# Altium footprint library SR PCB Library V01.PcbLib: 402 footprints (part 23 of 26)
Each footprint in its own frame and in the unit in brackets; x right, y up, seen from the top. Pads: shape width x height; smd on the part's side, far side on the other; paste and mask are expansions set on the pad; w line width, h text height; cw(c..) or ccw(c..) is an arc to the next point about the centre after c.
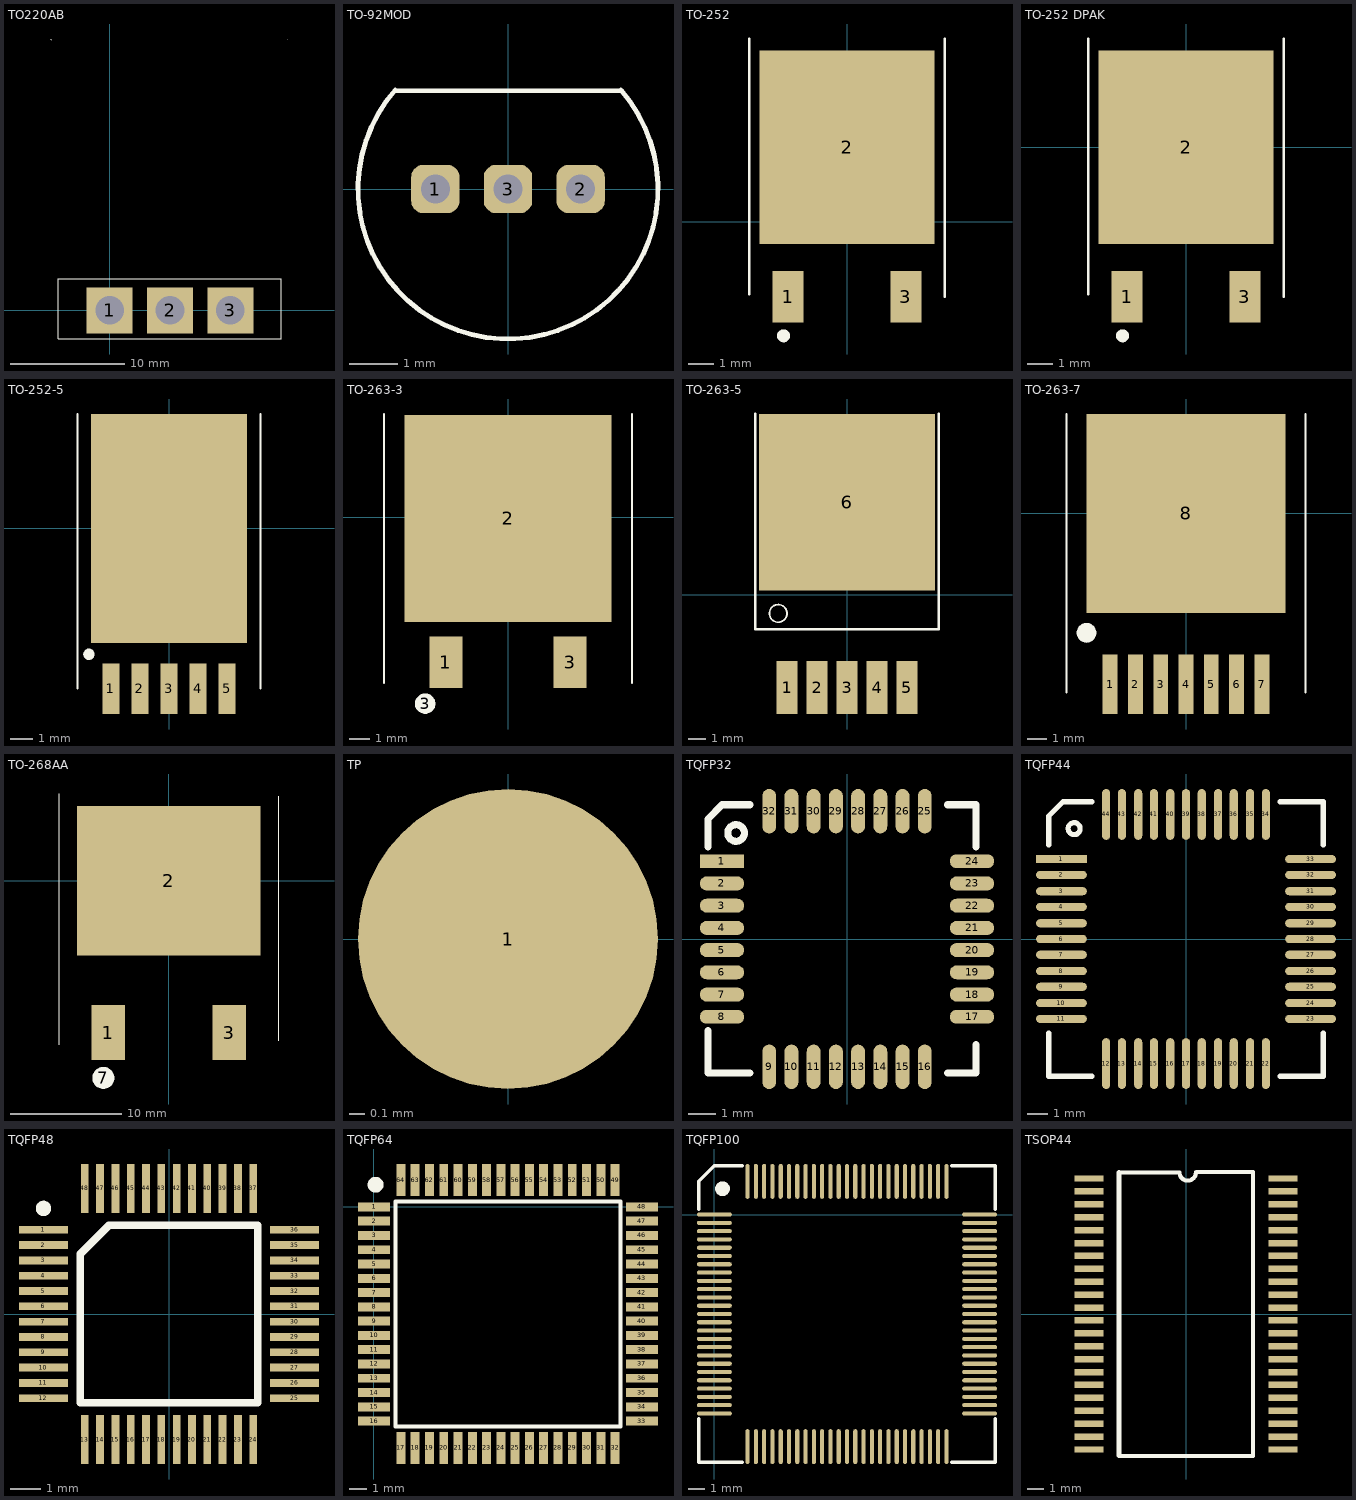
[diagram p22: the footprints below, top view; thin cyan lines are the x and y axes]

## TO220AB [mm]
pads (3):
  rect 4x4 hole 2.5: 1(0,0) 2(5.28,0) 3(10.56,0)
Top Overlay:
  lines w0.1: -5.125,23.72 -5.065,23.66 ; -4.5,2.774 -4.5,-2.5 15,-2.5 15,2.778 -4.446,2.778 ; 15.505,23.66 15.505,23.66

## TO-92MOD [mm]
height 4.55
pads (3):
  rrect50% 1x1 hole 0.6: 1(-1.5,0) 2(1.5,0) 3(0,0)
Top Overlay:
  lines w0.1: -2.331,2.044 ccw(c0,0) 2.332,2.043 ; -2.315,2.03 0,2.03 2.317,2.03

## TO-252 [mm]
height 0.68
pads (3):
  rect 1.2x2 smd: 1(-2.286,-2.9) 3(2.286,-2.9)
  rect 6.8x7.5 smd: 2(0,2.9)
Top Overlay:
  circle w0.254: c-2.462,-4.415 r0.125
  lines w0.1: -3.8,-2.8 -3.8,7.1 ; 3.8,-2.9 3.8,7.1

## TO-252 DPAK [mm]
pads (3):
  rect 1.2x2 smd: 1(-2.286,-5.8) 3(2.286,-5.8)
  rect 6.8x7.5 smd: 2(0,0)
Top Overlay:
  circle w0.254: c-2.462,-7.315 r0.125
  lines w0.1: -3.8,-5.7 -3.8,4.2 ; 3.8,-5.8 3.8,4.2

## TO-252-5 [mm]
pads (7):
  rect 0.75x2.2 smd: 1(-2.54,-7.01) 2(-1.27,-7.01) 3(0,-7.01) 4(1.27,-7.01) 5(2.54,-7.01)
  round 0.5 on Top Overlay: ""(-3.5,-5.5)
  rect 6.8x10 smd: ""(0,0)
Top Overlay:
  lines w0.1: -4,-7 -4,5 ; 4,-7 4,5

## TO-263-3 [mm]
pads (4):
  rect 1.6x2.5 smd: 1(-3,-7) 3(3,-7)
  rect 10x10 smd: 2(0,-0.05)
  round 1 on Top Overlay: 3(-4,-9)
Top Overlay:
  lines w0.1: -6,-8 -6,5 ; 6,-8 6,5

## TO-263-5 [mm]
height 1.75
pads (6):
  rect 1.2x3 smd: 1(-3.4,-5.25) 2(-1.7,-5.25) 3(0,-5.25) 4(1.7,-5.25) 5(3.4,-5.25)
  rect 10x10 smd: 6(0,5.25)
Top Overlay:
  circle w0.1: c-3.9,-1.05 r0.5
  lines w0.15: -5.2,10.25 -5.2,-1.95 5.2,-1.95 5.2,10.25

## TO-263-7 [mm]
pads (9):
  rect 0.75x3 smd: 1(-3.81,-8.58) 2(-2.54,-8.58) 3(-1.27,-8.58) 4(0,-8.58) 5(1.27,-8.58) 6(2.54,-8.58) 7(3.81,-8.58)
  rect 10x10 smd: 8(0,0)
  round 1 on Top Overlay: ""(-5,-6)
Top Overlay:
  lines w0.1: -6,-9 -6,5 ; 6,-9 6,5

## TO-268AA [mm]
pads (4):
  rect 3x5 smd paste+0: 1(-5.46,-13.7)
  rect 16.6x13.5 smd: 2(0,0)
  rect 3x5 smd: 3(5.46,-13.7)
  round 2 on Top Overlay mask+0.102: 7(-5.9,-17.8)
Top Overlay:
  lines w0.1: -9.9,-14.8 -9.9,7.85 ; 9.95,-14.45 9.95,7.65

## TP [mm]
height 0.5
pads (1):
  round 2 smd: 1(0,0)

## TQFP32 [mm]
pads (32):
  rect 1.6x0.5 smd: 1(-4.5,2.8)
  oval 1.6x0.5 smd: 2(-4.5,2) 3(-4.5,1.2) 4(-4.5,0.4) 5(-4.5,-0.4) 6(-4.5,-1.2) 7(-4.5,-2) 8(-4.5,-2.8) 17(4.5,-2.8) 18(4.5,-2) 19(4.5,-1.2) 20(4.5,-0.4) 21(4.5,0.4) 22(4.5,1.2) 23(4.5,2) 24(4.5,2.8)
  oval 0.5x1.6 smd: 9(-2.8,-4.6) 10(-2,-4.6) 11(-1.2,-4.6) 12(-0.4,-4.6) 13(0.4,-4.6) 14(1.2,-4.6) 15(2,-4.6) 16(2.8,-4.6) 25(2.8,4.6) 26(2,4.6) 27(1.2,4.6) 28(0.4,4.6) 29(-0.4,4.6) 30(-1.2,4.6) 31(-2,4.6) 32(-2.8,4.6)
Top Overlay:
  circle w0.254: c-3.992,3.816 r0.3
  lines w0.254: -5.008,-4.312 -5.008,-3.296 ; -5.008,-3.804 -5.008,-4.82 -3.484,-4.82 ; -5.008,3.308 -5.008,4.324 -4.5,4.832 -3.992,4.832 -3.484,4.832 ; 3.628,-4.82 4.644,-4.82 4.644,-3.804 ; 3.628,4.832 4.644,4.832 4.644,3.308

## TQFP44 [mil]
pads (44):
  rect 100x16 smd: 1(-245,157)
  oval 100x16 smd: 2(-245,126) 3(-245,94) 4(-245,63) 5(-245,31) 6(-245,0) 7(-245,-31) 8(-245,-63) 9(-245,-94) 10(-245,-126) 11(-245,-157) 23(245,-157) 24(245,-126) 25(245,-94) 26(245,-63) 27(245,-31) 28(245,0) 29(245,31) 30(245,63) 31(245,94) 32(245,126) 33(245,157)
  oval 16x100 smd: 12(-157,-245) 13(-126,-245) 14(-94,-245) 15(-63,-245) 16(-31,-245) 17(0,-245) 18(31,-245) 19(63,-245) 20(94,-245) 21(126,-245) 22(157,-245) 34(157,245) 35(126,245) 36(94,245) 37(63,245) 38(31,245) 39(0,245) 40(-31,245) 41(-63,245) 42(-94,245) 43(-126,245) 44(-157,245)
Top Overlay:
  circle w10: c-220,217 r11.81
  lines w10: -270,-185 -270,-270 -185,-270 ; -270,185 -270,242 -242,270 -185,270 ; 185,-270 270,-270 270,-185 ; 185,270 270,270 270,185

## TQFP48 [mm]
pads (48):
  rect 1.6x0.254 smd: 1(-4.1,2.75) 2(-4.1,2.25) 3(-4.1,1.75) 4(-4.1,1.25) 5(-4.1,0.75) 6(-4.1,0.25) 7(-4.1,-0.25) 8(-4.1,-0.75) 9(-4.1,-1.25) 10(-4.1,-1.75) 11(-4.1,-2.25) 12(-4.1,-2.75) 25(4.1,-2.75) 26(4.1,-2.25) 27(4.1,-1.75) 28(4.1,-1.25) 29(4.1,-0.75) 30(4.1,-0.25) 31(4.1,0.25) 32(4.1,0.75) 33(4.1,1.25) 34(4.1,1.75) 35(4.1,2.25) 36(4.1,2.75)
  rect 0.254x1.6 smd: 13(-2.75,-4.1) 14(-2.25,-4.1) 15(-1.75,-4.1) 16(-1.25,-4.1) 17(-0.75,-4.1) 18(-0.25,-4.1) 19(0.25,-4.1) 20(0.75,-4.1) 21(1.25,-4.1) 22(1.75,-4.1) 23(2.25,-4.1) 24(2.75,-4.1) 37(2.75,4.1) 38(2.25,4.1) 39(1.75,4.1) 40(1.25,4.1) 41(0.75,4.1) 42(0.25,4.1) 43(-0.25,4.1) 44(-0.75,4.1) 45(-1.25,4.1) 46(-1.75,4.1) 47(-2.25,4.1) 48(-2.75,4.1)
Top Overlay:
  circle w0.25: c-4.1,3.45 r0.125
  lines w0.2: -2.9,-2.9 2.9,-2.9 2.9,2.9
  lines w0.254: -2.9,1.958 -1.958,2.9 ; -2.9,1.958 -2.9,-2.9 2.9,-2.9 2.9,2.9 -1.274,2.9 -1.958,2.9 ; -2.9,1.958 -1.958,2.9

## TQFP64 [mm]
height 9.6
pads (64):
  rect 1.8x0.5 smd: 1(0.018,0.006) 2(0.018,-0.794) 3(0.018,-1.594) 4(0.018,-2.394) 5(0.018,-3.194) 6(0.018,-3.994) 7(0.018,-4.794) 8(0.018,-5.594) 9(0.018,-6.394) 10(0.018,-7.194) 11(0.018,-7.994) 12(0.018,-8.794) 13(0.018,-9.594) 14(0.018,-10.394) 15(0.018,-11.194) 16(0.018,-11.994) 33(15.018,-11.994) 34(15.018,-11.194) 35(15.018,-10.394) 36(15.018,-9.594) 37(15.018,-8.794) 38(15.018,-7.994) 39(15.018,-7.194) 40(15.018,-6.394) 41(15.018,-5.594) 42(15.018,-4.794) 43(15.018,-3.994) 44(15.018,-3.194) 45(15.018,-2.394) 46(15.018,-1.594) 47(15.018,-0.794) 48(15.018,0.006)
  rect 0.5x1.8 smd: 17(1.518,-13.494) 18(2.318,-13.494) 19(3.118,-13.494) 20(3.918,-13.494) 21(4.718,-13.494) 22(5.518,-13.494) 23(6.318,-13.494) 24(7.118,-13.494) 25(7.918,-13.494) 26(8.718,-13.494) 27(9.518,-13.494) 28(10.318,-13.494) 29(11.118,-13.494) 30(11.918,-13.494) 31(12.718,-13.494) 32(13.518,-13.494) 49(13.518,1.506) 50(12.718,1.506) 51(11.918,1.506) 52(11.118,1.506) 53(10.318,1.506) 54(9.518,1.506) 55(8.718,1.506) 56(7.918,1.506) 57(7.118,1.506) 58(6.318,1.506) 59(5.518,1.506) 60(4.718,1.506) 61(3.918,1.506) 62(3.118,1.506) 63(2.318,1.506) 64(1.518,1.506)
Top Overlay:
  circle w0.432: c0.104,1.245 r0.229
  lines w0.2: 1.218,-12.294 13.818,-12.294 13.818,0.306 1.218,0.306 1.218,-12.294

## TQFP100 [mm]
pads (100):
  oval 2.1x0.25 smd: 1(0,0) 2(0,-0.5) 3(0,-1) 4(0,-1.5) 5(0,-2) 6(0,-2.5) 7(0,-3) 8(0,-3.5) 9(0,-4) 10(0,-4.5) 11(0,-5) 12(0,-5.5) 13(0,-6) 14(0,-6.5) 15(0,-7) 16(0,-7.5) 17(0,-8) 18(0,-8.5) 19(0,-9) 20(0,-9.5) 21(0,-10) 22(0,-10.5) 23(0,-11) 24(0,-11.5) 25(0,-12) 51(16,-12) 52(16,-11.5) 53(16,-11) 54(16,-10.5) 55(16,-10) 56(16,-9.5) 57(16,-9) 58(16,-8.5) 59(16,-8) 60(16,-7.5) 61(16,-7) 62(16,-6.5) 63(16,-6) 64(16,-5.5) 65(16,-5) 66(16,-4.5) 67(16,-4) 68(16,-3.5) 69(16,-3) 70(16,-2.5) 71(16,-2) 72(16,-1.5) 73(16,-1) 74(16,-0.5) 75(16,0)
  oval 0.25x2.1 smd: 26(2,-14) 27(2.5,-14) 28(3,-14) 29(3.5,-14) 30(4,-14) 31(4.5,-14) 32(5,-14) 33(5.5,-14) 34(6,-14) 35(6.5,-14) 36(7,-14) 37(7.5,-14) 38(8,-14) 39(8.5,-14) 40(9,-14) 41(9.5,-14) 42(10,-14) 43(10.5,-14) 44(11,-14) 45(11.5,-14) 46(12,-14) 47(12.5,-14) 48(13,-14) 49(13.5,-14) 50(14,-14) 76(14,2) 77(13.5,2) 78(13,2) 79(12.5,2) 80(12,2) 81(11.5,2) 82(11,2) 83(10.5,2) 84(10,2) 85(9.5,2) 86(9,2) 87(8.5,2) 88(8,2) 89(7.5,2) 90(7,2) 91(6.5,2) 92(6,2) 93(5.5,2) 94(5,2) 95(4.5,2) 96(4,2) 97(3.5,2) 98(3,2) 99(2.5,2) 100(2,2)
Top Overlay:
  circle w0.7: c0.49,1.56 r0.09
  lines w0.2: -0.95,-12.3 -0.95,-14.95 1.7,-14.95 ; -0.95,0.3 -0.95,2 0,2.95 1.7,2.95 ; 14.3,-14.95 16.95,-14.95 16.95,-12.3 ; 14.3,2.95 16.95,2.95 16.95,0.3

## TSOP44 [mm]
pads (44):
  rect 1.8x0.4 smd: 1(-6,8.4) 2(-6,7.6) 3(-6,6.8) 4(-6,6) 5(-6,5.2) 6(-6,4.4) 7(-6,3.6) 8(-6,2.8) 9(-6,2) 10(-6,1.2) 11(-6,0.4) 12(-6,-0.4) 13(-6,-1.2) 14(-6,-2) 15(-6,-2.8) 16(-6,-3.6) 17(-6,-4.4) 18(-6,-5.2) 19(-6,-6) 20(-6,-6.8) 21(-6,-7.6) 22(-6,-8.4) 23(6,-8.4) 24(6,-7.6) 25(6,-6.8) 26(6,-6) 27(6,-5.2) 28(6,-4.4) 29(6,-3.6) 30(6,-2.8) 31(6,-2) 32(6,-1.2) 33(6,-0.4) 34(6,0.4) 35(6,1.2) 36(6,2) 37(6,2.8) 38(6,3.6) 39(6,4.4) 40(6,5.2) 41(6,6) 42(6,6.8) 43(6,7.6) 44(6,8.4)
Top Overlay:
  lines w0.2: -4.165,-8.8 4.165,-8.8
  lines w0.254: -4.145,-8.78 -4.165,-8.8 4.165,-8.8 4.165,8.8 0.633,8.8 ; -4.145,8.78 -0.403,8.78 ccw(c0.105,8.78) 0.613,8.78
  lines w0.3: -4.145,-8.78 -4.145,8.78